# Altium footprint library RotatoryEncoders.PcbLib: 1 footprints
Each footprint in its own frame and in the unit in brackets; x right, y up, seen from the top. Pads: shape width x height; smd on the part's side, far side on the other; paste and mask are expansions set on the pad; w line width, h text height; cw(c..) or ccw(c..) is an arc to the next point about the centre after c.
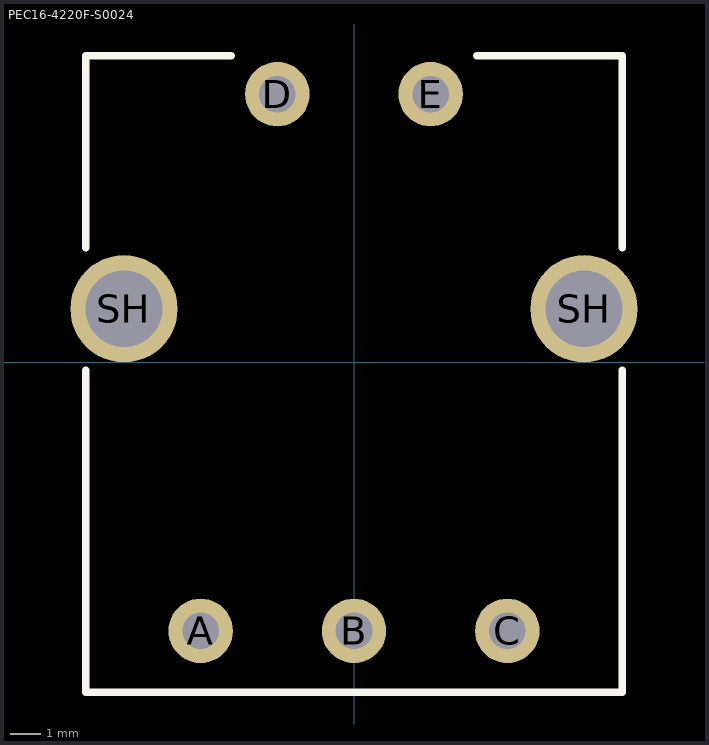
[diagram p0: the footprint, top view; thin cyan lines are the x and y axes]

## PEC16-4220F-S0024 [mm]
pads (7):
  round 2.1 hole 1.2: A(-5,-8.75) B(0,-8.75) C(5,-8.75) D(-2.5,8.75) E(2.5,8.75)
  round 3.5 hole 2.5: SH(-7.5,1.75) SH(7.5,1.75)
Top Overlay:
  lines w0.254: -8.75,-0.25 -8.75,-10.75 8.75,-10.75 8.75,-0.25 ; -8.75,3.75 -8.75,10 -4,10 ; 4,10 8.75,10 8.75,3.75
3D body "PEC16-4X20F-SXXXX.stp": height 28.01, standoff -4.59, extent -8.846,-10.7 8.846,10